# Altium schematic symbol library 60w开关电源库.SchLib: 4 symbols
Pins are listed as number, name and electrical type; pins without a type are passive.

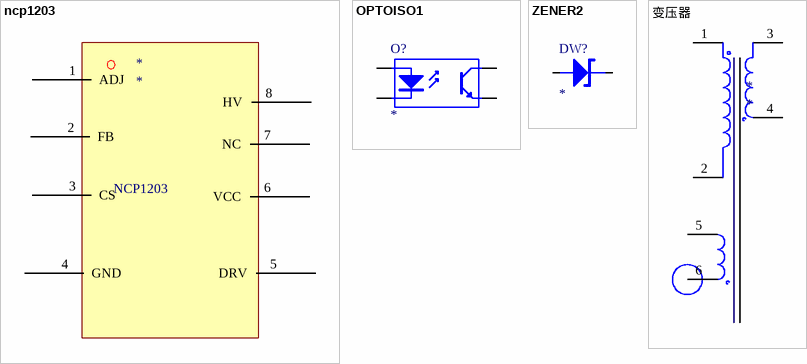
[diagram p0: symbols ncp1203 to 变压器]

## ncp1203
designator *
pins: 1 ADJ, 2 FB, 3 CS, 4 GND, 5 DRV, 6 VCC, 7 NC, 8 HV
text: NCP1203

## OPTOISO1
designator O?
pins: 1, 2, 3, 4

## ZENER2
designator DW?
footprint DW400
footprint DW300
footprint DW1
pins: 1, 2

## 变压器
designator *
pins: 1 Pri+, 2 Pri-, 3 Sec-, 4 Sec+, 5 sec-, 6 sec+